# Altium schematic symbol library PLS 2.54 1x6.SchLib: 1 symbol
Pins are listed as number, name and electrical type; pins without a type are passive.

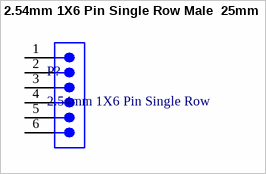
[diagram p0: symbol 2.54mm 1X6 Pin Single Row Male  25mm]

## 2.54mm 1X6 Pin Single Row Male  25mm
designator P?, comment 2.54mm 1X6 Pin Single Row
2.54mm 1X6 Pin Single Row Male Connector PCB  25mm 1X6P Strip Pinheader
footprint PLS2.54 1x6 25mm
pins: 1, 2, 3, 4, 5, 6